# Altium footprint library XDCR_C0720B001F.PcbLib: 1 footprints
Each footprint in its own frame and in the unit in brackets; x right, y up, seen from the top. Pads: shape width x height; smd on the part's side, far side on the other; paste and mask are expansions set on the pad; w line width, h text height; cw(c..) or ccw(c..) is an arc to the next point about the centre after c.
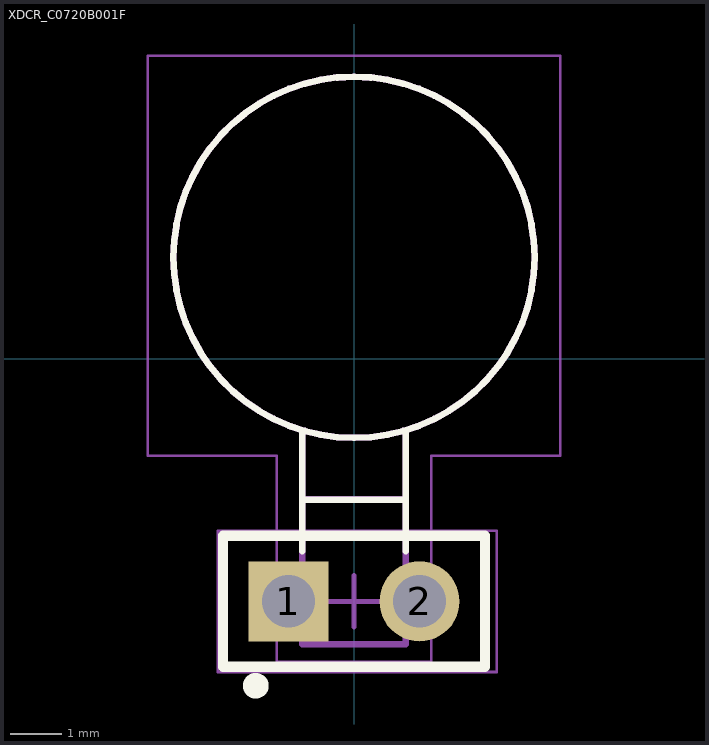
[diagram p0: the footprint, top view; thin cyan lines are the x and y axes]

## XDCR_C0720B001F [mm]
pads (2):
  rect 1.55x1.55 hole 1.02: 1(-1.27,-4.699)
  round 1.55 hole 1.02: 2(1.27,-4.699)
Top Overlay:
  circle w0.127: c0,1.97 r3.5
  circle w0.25: c-1.905,-6.335 r0.125
  lines w0.127: -1,-3.725 -1,-2.73 ; -1,-1.425 -1,-2.73 ; 1,-3.725 1,-2.73 ; 1,-1.425 1,-2.73 ; -1,-2.73 1,-2.73
  lines w0.2: -2.54,-5.969 2.54,-5.969 2.54,-3.429 -2.54,-3.429 -2.54,-5.969
Mechanical 13:
  circle w0.127: c0,1.97 r3.5
  lines w0.1: -2.54,-5.969 2.54,-5.969 2.54,-3.429 -2.54,-3.429 -2.54,-5.969
  lines w0.127: -1,-2.725 1,-2.725 1,-1.425 ; -1,-1.425 -1,-5.53 1,-5.53 1,-2.73
Mechanical 15:
  lines w0.05: -4,-1.875 -1.5,-1.875 -1.5,-5.875 1.5,-5.875 1.5,-1.875 4,-1.875 4,5.875 -4,5.875 -4,-1.875 ; -2.64,-6.069 2.767,-6.069 2.767,-3.329 -2.64,-3.329 -2.64,-6.069
  lines w0.1: -0.5,-4.699 0.5,-4.699 ; 0,-5.199 0,-4.199
3D body "TSW-102-07-S-S.stp": height 8.38, standoff -2.54, extent -2.54,-5.969 2.667,-3.429